# Altium schematic symbol library 925-144J-51P.SchLib: 1 symbol
Pins are listed as number, name and electrical type; pins without a type are passive.

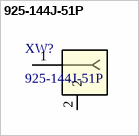
[diagram p0: symbol 925-144J-51P]

## 925-144J-51P
designator XW?
No Description Available; Mfr_Name: Amphenol ICC; Manufacturer_Part_Number: SMP-MSLD-PCE-5T; Copyright: Copyright (C) 2023 Ultra Librarian. All rights reserved.; Digi-Key_Part_Number_1: ARF3306CT-ND; Digi-Key_Part_Number_2: ARF3306TR-ND; Digi-Key_Part_Number_3: ARF330DKR-ND; RefDes: RefDes; Type: DEV
footprint CONN_SMP-MSLD-PCE-5T_AMP
pins: 1, 2